# EAGLE library part AT45DB161D (library mbed-ics)
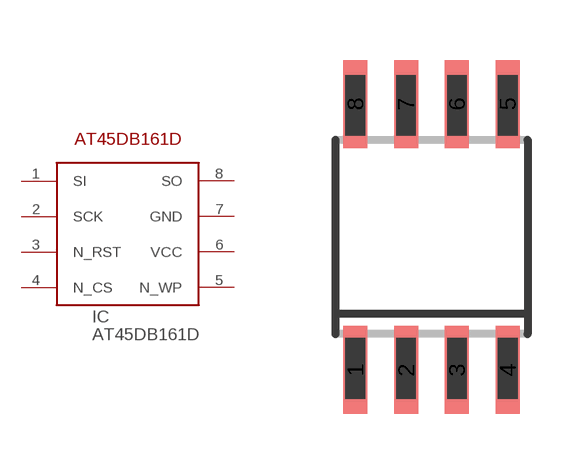
[diagram p2: symbol with the pads of SO-08M; footprint SO-08M]

Designator prefix IC

## AT45DB161D  [SO-08M]
1  SI  in
2  SCK  in
3  N_RST  in
4  N_CS  in
5  N_WP  in
6  VCC  pwr
7  GND  pwr
8  SO  out

## Footprint SO-08M (pad centres in mm)
Small Outline Medium Plastic Gull Wing 207-mil body, package type SM
smd 0.6 x 2.2: 1 -1.905,-3.33; 2 -0.635,-3.33; 3 0.635,-3.33; 4 1.905,-3.33; 5 1.905,3.33; 6 0.635,3.33; 7 -0.635,3.33; 8 -1.905,3.33